# Altium schematic symbol library MP_3P2.SchLib: 1 symbol
Pins are listed as number, name and electrical type; pins without a type are passive.

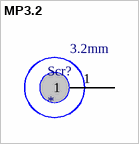
[diagram p0: symbol MP3.2]

## MP3.2
designator Scr?
footprint MP3.2
pins: 1
text: 3.2mm